# EAGLE library part PSRAM_LY68L6400SLIT (library Scott-ICs)
PSRAM for ESP32, etc
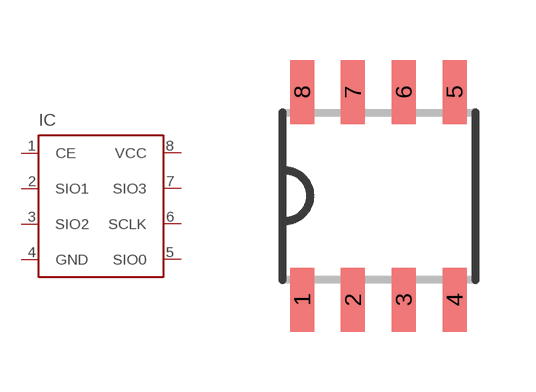
[diagram p6: symbol with the pads of SOP8; footprint SOP8]

Designator prefix IC

## PSRAM_LY68L6400SLIT  [SOP8]
1  CE  out
2  SIO1  in
3  SIO2  in
4  GND  in
5  SIO0  in
6  SCLK  pas
7  SIO3  out
8  VCC  in

## Footprint SOP8 (pad centres in mm)
SOP8 Source: http://www.rohm.com/products/databook/motor/pdf/bd623x_series-e.pdf
smd 0.6 x 1.6: 1 -1.905,-2.6; 2 -0.635,-2.6; 3 0.635,-2.6; 4 1.905,-2.6; 5 1.905,2.6; 6 0.635,2.6; 7 -0.635,2.6; 8 -1.905,2.6